# Altium schematic symbol library TVS_2_1dir.SchLib: 1 symbol
Pins are listed as number, name and electrical type; pins without a type are passive.

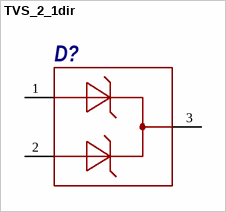
[diagram p0: symbol TVS_2_1dir]

## TVS_2_1dir
designator D?
pins: 1 14, 2 15, 3 16